# EAGLE library part A3967 (library MtMM)
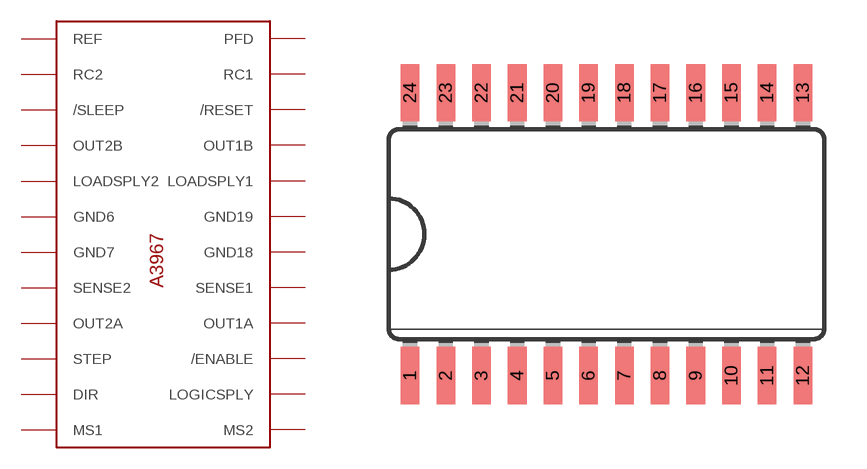
[diagram p3: symbol with the pads of SO24W; footprint SO24W]

Designator prefix -

## A3967  [SO24W]
1  REF
2  RC2
3  /SLEEP
4  OUT2B
5  LOADSPLY2
6  GND6
7  GND7
8  SENSE2
9  OUT2A
10  STEP
11  DIR
12  MS1
13  MS2
14  LOGICSPLY
15  /ENABLE
16  OUT1A
17  SENSE1
18  GND18
19  GND19
20  LOADSPLY1
21  OUT1B
22  /RESET
23  RC1
24  PFD

## Footprint SO24W (pad centres in mm)
Small Outline Package 24 wide
smd 0.66 x 2.032: 1 -6.985,-5.029; 2 -5.715,-5.029; 3 -4.445,-5.029; 4 -3.175,-5.029; 5 -1.905,-5.029; 6 -0.635,-5.029; 7 0.635,-5.029; 8 1.905,-5.029; 9 3.175,-5.029; 10 4.445,-5.029; 11 5.715,-5.029; 12 6.985,-5.029; 13 6.985,5.029; 14 5.715,5.029; 15 4.445,5.029; 16 3.175,5.029; 17 1.905,5.029; 18 0.635,5.029; 19 -0.635,5.029; 20 -1.905,5.029; 21 -3.175,5.029; 22 -4.445,5.029; 23 -5.715,5.029; 24 -6.985,5.029